# Altium schematic symbol library SCH - PASSIVES - CAPACITOR - EEE-FK0J101V.SCHLIB: 1 symbol
Pins are listed as number, name and electrical type; pins without a type are passive.

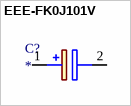
[diagram p0: symbol EEE-FK0J101V]

## EEE-FK0J101V
designator C?
Capacitor Polarised
pins: 1 +, 2 -